# Altium footprint library misc_connectors.PcbLib: 7 footprints
Each footprint in its own frame and in the unit in brackets; x right, y up, seen from the top. Pads: shape width x height; smd on the part's side, far side on the other; paste and mask are expansions set on the pad; w line width, h text height; cw(c..) or ccw(c..) is an arc to the next point about the centre after c.
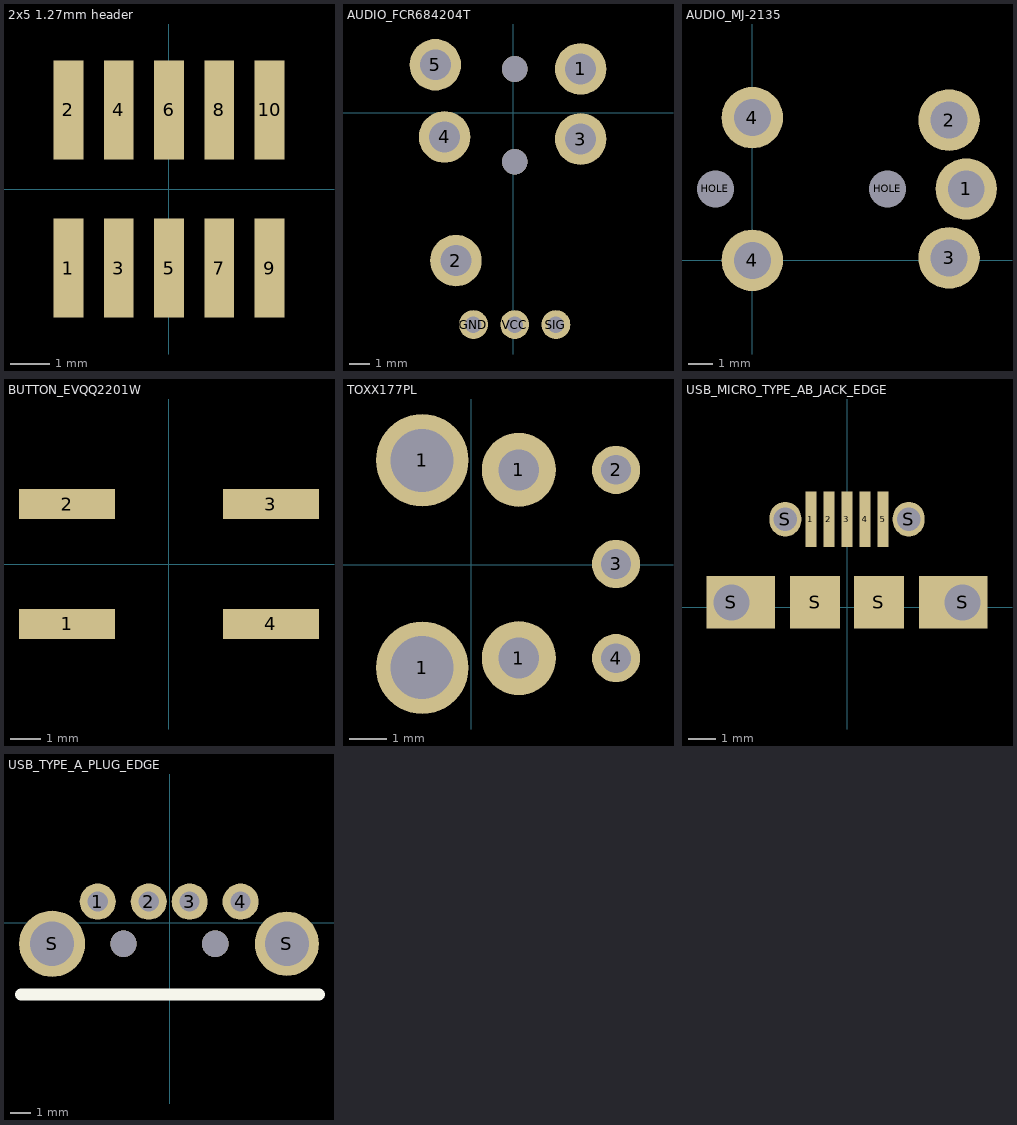
[diagram p0: the footprints below, top view; thin cyan lines are the x and y axes]

## 2x5 1.27mm header [mm]
pads (10):
  rect 0.75x2.5 smd: 1(-2.54,-2) 2(-2.54,2) 3(-1.27,-2) 4(-1.27,2) 5(0,-2) 6(0,2) 7(1.27,-2) 8(1.27,2) 9(2.54,-2) 10(2.54,2)

## AUDIO_FCR684204T [mm] "Cliff Electronics OTJ-4 combo jack"
pads (8):
  round 2.5 hole 1.5: 1(3.275,2.125) 2(-2.775,-7.175) 3(3.275,-1.275) 4(-3.325,-1.175) 5(-3.775,2.325)
  round 1.4 hole 0.8: GND(-1.925,-10.275) SIG(2.075,-10.275) VCC(0.075,-10.275)
via 0.075,2.125 diameter 1.25 hole 1.25
via 0.075,-2.375 diameter 1.25 hole 1.25
3D body: height 4.5, standoff 0, extent -4.85,-11.875 4.45,4.15
3D body: height 4.7, standoff -0.3, extent -2.549,4.15 2.449,6.15

## AUDIO_MJ-2135 [mm] "Multicomp Pro MJ-2135"
pads (7):
  round 2.5 hole 1.5: 1(8.7,2.9) 2(8,5.7) 3(8,0.1) 4(0,0) 4(0,5.8)
  round 1.3 hole 1.5: HOLE(-1.5,2.9) HOLE(5.5,2.9)
3D body: height 6, standoff 0, extent -3.225,-0.575 8.775,6.425
3D body: height 5.8, standoff 0.2, extent -5.74,0.163 -3.24,5.757

## BUTTON_EVQQ2201W [mm] "BUTTON_TOP"
pads (4):
  rect 3.2x1 smd: 1(-3.4,-2) 2(-3.4,2) 3(3.4,2) 4(3.4,-2)
3D body "EVQQ2-DHMSW2-01W.stp": height 2, standoff 0, extent -3.25,-3.024 3.35,3.075

## TOXX177PL [mm] "SPDIF R/T"
pads (7):
  round 2.5 hole 1.7: 1(-1.325,-2.775) 1(-1.325,2.825)
  round 2 hole 1.1: 1(1.285,-2.515) 1(1.285,2.565)
  round 1.3 hole 0.8: 2(3.91,2.565) 3(3.91,0.025) 4(3.91,-2.515)
3D body: height 10, standoff 0, extent -7.425,-4.725 6.075,4.925
3D body: height 9, standoff 4, extent -7.85,-3.975 -7.425,4.15
3D body: height 5, standoff 3, extent -7.875,-3.25 -7.45,3.5
3D body: height 3, standoff 1, extent -7.863,-2.525 -7.437,2.875

## USB_MICRO_TYPE_AB_JACK_EDGE [mm] "Molex mirco USB AB REC. 47589-0001"
pads (11):
  rect 0.4x2 smd: 1(-1.3,3.175) 2(-0.65,3.175) 3(0,3.175) 4(0.65,3.175) 5(1.3,3.175)
  rect 2.475x1.9 hole 1.3 copper offset 0.338,0: S(-4.175,0.175)
  oval 1.15x1.25 hole 0.85: S(-2.225,3.175) S(2.225,3.175)
  rect 1.8x1.9 smd: S(-1.15,0.175) S(1.15,0.175)
  rect 2.475x1.9 hole 1.3 copper offset -0.338,0: S(4.175,0.175)
3D body "microUSB.stp": height 2.76, standoff -0.55, extent -4.35,-2.575 4.3,3.319

## USB_TYPE_A_PLUG_EDGE [mm]
pads (6):
  round 1.8 hole 1: 1(-3.575,1.05) 2(-1.035,1.05) 3(1.005,1.05) 4(3.545,1.05)
  round 3.3 hole 2.2: S(-5.85,-1.05)
  round 3.2 hole 2.2: S(5.85,-1.05)
via -2.3,-1.05 diameter 1.3 hole 1.3
via 2.28,-1.05 diameter 1.3 hole 1.3
Top Overlay:
  lines w0.6: -7.4,-3.575 7.45,-3.575
3D body "UP2-AH-1-TH.stp": height 3.35, standoff -3, extent -6.35,-18.725 6.25,1.275